# Altium footprint library AltiumLibrary.PcbLib: 85 footprints (part 5 of 6)
Each footprint in its own frame and in the unit in brackets; x right, y up, seen from the top. Pads: shape width x height; smd on the part's side, far side on the other; paste and mask are expansions set on the pad; w line width, h text height; cw(c..) or ccw(c..) is an arc to the next point about the centre after c.
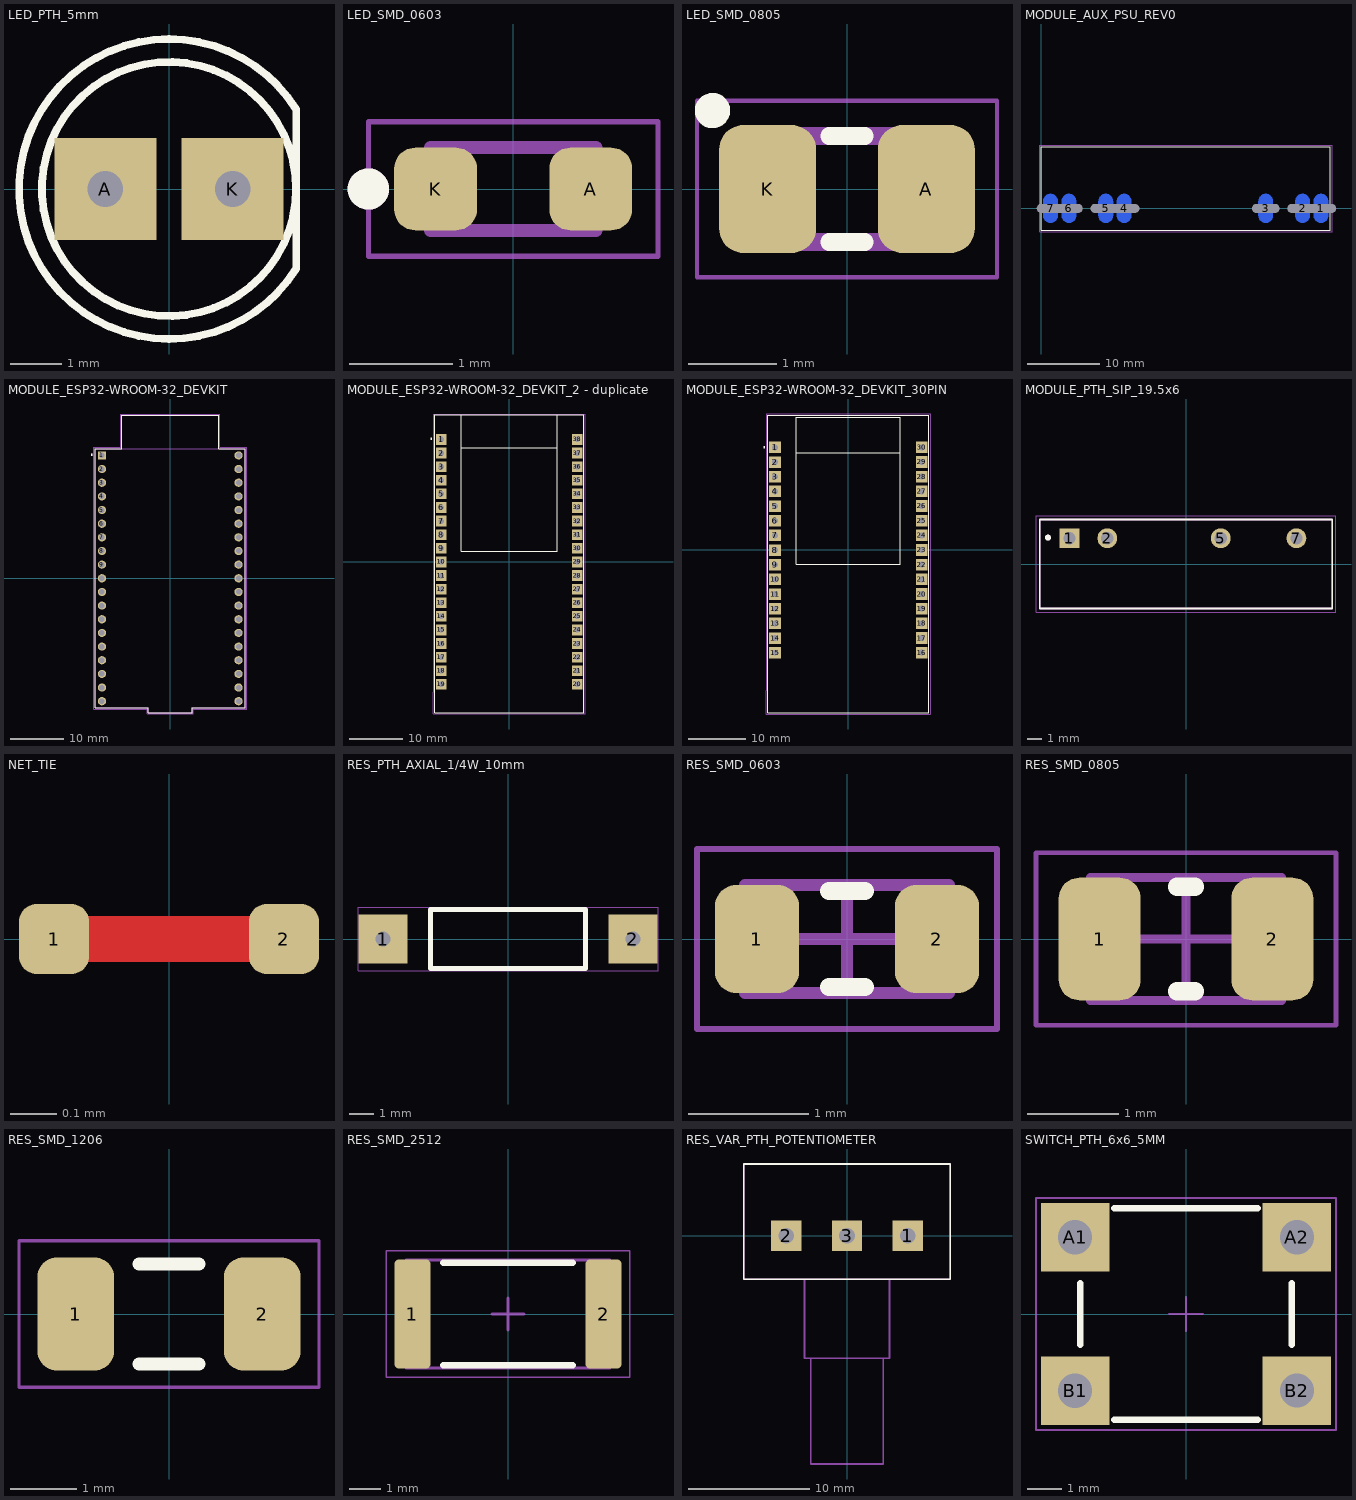
[diagram p4: the footprints below, top view; thin cyan lines are the x and y axes]

## LED_PTH_5mm [mm] "Generic PTH LED. 5mm diameter"
height 10
pads (2):
  rect 2x2 hole 0.7: A(-1.25,0) K(1.25,0)
Top Overlay:
  circle w0.152: c0,0 r2.5
  lines w0.152: 2.502,-1.563 cw(c0,0) 2.502,1.563 2.502,-0.546 2.502,-1.563
3D body "LED.step": height 8.61, standoff -3.49, extent -2.938,-2.945 2.5,2.945

## LED_SMD_0603 [mm]
pads (2):
  rrect50% 0.8x0.8 smd: A(0.75,0) K(-0.75,0)
Top Overlay:
  circle w0.2: c-1.4,0 r0.1
Top Assembly (Mech13):
  circle w0.2: c-1.4,0 r0.1
  lines w0.127: -0.8,-0.4 0.8,-0.4 0.8,0.4 -0.8,0.4 -0.8,-0.4
Top Courtyard:
  lines w0.05: -1.4,-0.65 1.4,-0.65 1.4,0.65 -1.4,0.65 -1.4,-0.65
3D body "step_temp.STEP": height 0.65, standoff 0, extent -0.8,-0.4 0.8,0.4

## LED_SMD_0805 [mm]
pads (2):
  rrect50% 1.1x1.45 smd: A(0.9,0) K(-0.9,0)
Top Overlay:
  circle w0.2: c-1.524,0.889 r0.1
  lines w0.2: -0.2,-0.6 0.2,-0.6 ; -0.2,0.6 0.2,0.6
Top Assembly (Mech13):
  region: 1,-0.6 0.5,-0.6 0.5,0.6 1,0.6
  region: -0.5,-0.6 -1,-0.6 -1,0.6 -0.5,0.6
  lines w0.2: -1,-0.6 -1,0.6 1,0.6 1,-0.6 -1,-0.6
Top Courtyard:
  lines w0.05: -1.7,-1 -1.7,1 1.7,1 1.7,-1 -1.7,-1
3D body "step_temp.STEP": height 0.7, standoff 0, extent -1,-0.625 1,0.625

## MODULE_AUX_PSU_REV0 [mm] "GEDRE Auxiliary Power Suppy - 3 Outputs"
height 17.15
pads (11):
  oval 2x4 smd far side: 1(38.576,0) 2(36.036,0) 3(30.956,0) 4(11.43,0) 5(8.89,0) 6(3.81,0) 7(1.27,0)
  round 0 hole 1.2 slot 6.28 at 0 deg unplated: 11(2.54,0)
  round 0 hole 1.2 slot 6.68 at 0 deg unplated: 11(10.16,0) 11(37.306,0)
  round 0 hole 1.2 slot 3.74 at 0 deg unplated: 11(30.956,0)
Top Overlay:
  lines w0.152: 0,-3 0,8.5 16.57,8.5 39.846,8.5 39.846,-3 0,-3
Top Courtyard:
  lines w0.152: -0.2,-3.2 -0.2,8.7 40.1,8.7 40.1,-3.2 6.9,-3.2 -0.2,-3.2
3D body "PCB.step": height 17.16, standoff -4.12, extent 0,-3.023 39.846,8.518

## MODULE_ESP32-WROOM-32_DEVKIT [mm]
pads (38):
  rect 1.53x1.53 / inner round 1.53 / far side rect 1.53x1.53 hole 1.02: 1(-12.7,22.85)
  round 1.53 hole 1.02: 2(-12.7,20.31) 3(-12.7,17.77) 4(-12.7,15.23) 5(-12.7,12.69) 6(-12.7,10.15) 7(-12.7,7.61) 8(-12.7,5.07) 9(-12.7,2.53) 10(-12.7,-0.01) 11(-12.7,-2.55) 12(-12.7,-5.09) 13(-12.7,-7.63) 14(-12.7,-10.17) 15(-12.7,-12.71) 16(-12.7,-15.25) 17(-12.7,-17.79) 18(-12.7,-20.33) 19(-12.7,-22.87) 20(12.7,-22.87) 21(12.7,-20.33) 22(12.7,-17.79) 23(12.7,-15.25) 24(12.7,-12.71) 25(12.7,-10.17) 26(12.7,-7.63) 27(12.7,-5.09) 28(12.7,-2.55) 29(12.7,-0.01) 30(12.7,2.53) 31(12.7,5.07) 32(12.7,7.61) 33(12.7,10.15) 34(12.7,12.69) 35(12.7,15.23) 36(12.7,17.77) 37(12.7,20.31) 38(12.7,22.85)
Top Overlay:
  circle w0.2: c-14.57,22.97 r0.1
  lines w0.127: -13.95,-24.1 -13.95,24.1 -9,24.1 -9,30.3 9,30.3 9,24.1 13.95,24.1 13.95,-24.1 4.06,-24.1 4.06,-25 -4.07,-25 -4.07,-24.1 -13.95,-24.1
Top Assembly (Mech13):
  circle w0.2: c-14.57,22.97 r0.1
  lines w0.127: -9,24.1 9,24.1 ; -9,24.1 -13.95,24.1 -13.95,-24.1 -4.07,-24.1 -4.07,-25 4.06,-25 4.06,-24.1 13.95,-24.1 13.95,24.1 9,24.1 ; -9,24.1 -9,30.3 9,30.3 9,24.1
Top Courtyard:
  lines w0.05: -14.2,-24.38 -14.2,24.38 -9.25,24.38 -9.25,30.55 9.25,30.55 9.25,24.38 14.2,24.38 14.2,-24.38 4.31,-24.38 4.31,-25.25 -4.32,-25.25 -4.32,-24.38 -14.2,-24.38
3D body "step_temp.STEP": height 6.69, standoff -6, extent -13.97,-24.8 13.97,30.3

## MODULE_ESP32-WROOM-32_DEVKIT_2 - duplicate [mm]
pads (38):
  rect 2x2 hole 1.02: 1(-12.7,22.85) 2(-12.7,20.31) 3(-12.7,17.77) 4(-12.7,15.23) 5(-12.7,12.69) 6(-12.7,10.15) 7(-12.7,7.61) 8(-12.7,5.07) 9(-12.7,2.53) 10(-12.7,-0.01) 11(-12.7,-2.55) 12(-12.7,-5.09) 13(-12.7,-7.63) 14(-12.7,-10.17) 15(-12.7,-12.71) 16(-12.7,-15.25) 17(-12.7,-17.79) 18(-12.7,-20.33) 19(-12.7,-22.87) 20(12.7,-22.87) 21(12.7,-20.33) 22(12.7,-17.79) 23(12.7,-15.25) 24(12.7,-12.71) 25(12.7,-10.17) 26(12.7,-7.63) 27(12.7,-5.09) 28(12.7,-2.55) 29(12.7,-0.01) 30(12.7,2.53) 31(12.7,5.07) 32(12.7,7.61) 33(12.7,10.15) 34(12.7,12.69) 35(12.7,15.23) 36(12.7,17.77) 37(12.7,20.31) 38(12.7,22.85)
Top Overlay:
  circle w0.2: c-14.57,22.97 r0.1
  lines w0.127: -9,21.31 9,21.31 ; -9,21.31 -9,27.5 ; -9,21.31 -9,2.755 -9,2 -6.5,2 9,2 9,2.755 9,21.31 ; -9,27.5 -13.95,27.5 -13.95,-28.2 -4.07,-28.2 4.06,-28.2 13.95,-28.2 13.95,27.5 9,27.5 ; -9,27.5 9,27.5 ; -9,27.5 9,27.5 ; 9,21.31 9,27.5
Top Courtyard:
  lines w0.05: 14.2,-24.38 14.2,24.38 ; -14.2,-28.4 -14.2,-24.38 -14.2,27.6 14.2,27.6 14.2,-28.4 -14.2,-28.4
3D body "ESP.step": height 6.7, standoff -5.99, extent -13.985,-28.175 13.985,27.475

## MODULE_ESP32-WROOM-32_DEVKIT_30PIN [mm]
pads (30):
  rect 2x2 hole 1.02: 1(-12.7,17.77) 2(-12.7,15.23) 3(-12.7,12.69) 4(-12.7,10.15) 5(-12.7,7.61) 6(-12.7,5.07) 7(-12.7,2.53) 8(-12.7,-0.01) 9(-12.7,-2.55) 10(-12.7,-5.09) 11(-12.7,-7.63) 12(-12.7,-10.17) 13(-12.7,-12.71) 14(-12.7,-15.25) 15(-12.7,-17.79) 16(12.7,-17.78) 17(12.7,-15.24) 18(12.7,-12.7) 19(12.7,-10.16) 20(12.7,-7.62) 21(12.7,-5.08) 22(12.7,-2.54) 23(12.7,0) 24(12.7,2.54) 25(12.7,5.08) 26(12.7,7.62) 27(12.7,10.16) 28(12.7,12.7) 29(12.7,15.24) 30(12.7,17.78)
Top Overlay:
  circle w0.2: c-14.57,17.77 r0.1
  lines w0.127: -9,16.81 -9,-1.745 -9,-2.5 -6.5,-2.5 9,-2.5 9,-1.745 9,16.81 ; -9,16.81 -9,23 ; -9,16.81 9,16.81 ; -9,23 9,23 ; -9,23 9,23 ; 9,16.81 9,23 ; -13.95,-28.2 -4.07,-28.2 4.06,-28.2 13.95,-28.2 13.95,23.3 -13.95,23.3 -13.95,-28.2
Top Courtyard:
  lines w0.05: 14.2,-24.38 14.2,23.55 ; 14.2,23.55 -14.2,23.55 -14.2,-24.38 -14.2,-28.4 14.2,-28.4 14.2,23.55
3D body "ESP.step": height 4.86, standoff 0, extent -14.5,-28.769 14.5,24.307

## MODULE_PTH_SIP_19.5x6 [mm] "SIP 19.5x6mm power supply module"
height 10.2
pads (4):
  rect 1.328x1.328 hole 0.82: 1(-7.825,1.73)
  round 1.328 hole 0.82: 2(-5.285,1.73) 5(2.335,1.73) 7(7.415,1.73)
Top Overlay:
  circle w0.2: c-9.271,1.778 r0.1
  lines w0.127: -9.825,-3 9.825,-3 9.825,3 -9.825,3 -9.825,-3
Top Assembly (Mech13):
  circle w0.2: c-9.271,1.778 r0.1
  lines w0.127: -9.825,-3 9.825,-3 9.825,3 -9.825,3 -9.825,-3
Top Courtyard:
  lines w0.05: -10.075,-3.25 10.075,-3.25 10.075,3.25 -10.075,3.25 -10.075,-3.25
3D body "RK-1515S-P--3DModel-STEP-1.STEP": height 10.21, standoff -4.09, extent -9.779,-3 9.871,3

## NET_TIE [mil] "Generic net tie"
pads (2):
  rrect50% 6x6 smd paste-99999 mask+4: 1(-9.84,0) 2(9.84,0)
Top Layer:
  rectangle: -7.87,-1.97 7.87,1.97

## RES_PTH_AXIAL_1/4W_10mm [mm] "1/4W PTH Resistor - 10.16mm lead spacing"
height 2.4
pads (2):
  rect 2x2 hole 0.6: 1(-5.08,0) 2(5.08,0)
Top Overlay:
  lines w0.2: -3.15,-1.2 -3.15,1.2 3.15,1.2 3.15,-1.2 -3.15,-1.2
Top Courtyard:
  lines w0.05: -6.1,-1.3 -6.1,1.3 6.1,1.3 6.1,-1.3 -6.1,-1.3
3D body "Res.step": height 2.39, standoff -3.5, extent -5.355,-1.2 5.355,1.2

## RES_SMD_0603 [mm] "0603 Chip Resistor, 2-Leads, Body 1,60x0,80mm, IPC Medium Density"
height 0.45
pads (2):
  rrect50% 0.7x0.9 smd: 1(-0.75,0) 2(0.75,0)
Top Overlay:
  lines w0.152: -0.15,-0.4 0.15,-0.4 ; -0.15,0.4 0.15,0.4
Top Assembly (Mech13):
  lines w0.1: -0.85,-0.45 -0.85,0.45 0.85,0.45 0.85,-0.45 -0.85,-0.45
Top Courtyard:
  lines w0.05: -1.25,-0.75 -1.25,0.75 1.25,0.75 1.25,-0.75 -1.25,-0.75
  lines w0.1: -0.45,0 0.45,0 ; 0,-0.45 0,0.45
3D body "Chip2PinSM127P600-8N.step": height 0.45, standoff 0, extent -0.85,-0.45 0.85,0.45

## RES_SMD_0805 [mm] "0805 Chip Resistor, 2-Leads, Body 2,00x1,25mm, IPC Medium Density"
height 0.5
pads (2):
  rrect50% 0.9x1.35 smd: 1(-0.95,0) 2(0.95,0)
Top Overlay:
  lines w0.2: -0.1,-0.575 0.1,-0.575 ; -0.1,0.575 0.1,0.575
Top Assembly (Mech13):
  lines w0.1: -1.05,-0.675 1.05,-0.675 1.05,0.675 -1.05,0.675 -1.05,-0.675
Top Courtyard:
  lines w0.05: -1.65,-0.95 1.65,-0.95 1.65,0.95 -1.65,0.95 -1.65,-0.95
  lines w0.1: -0.5,0 0.5,0 ; 0,-0.5 0,0.5
3D body "RES_SMD_0805.step": height 0.5, standoff 0, extent -1.05,-0.675 1.05,0.675

## RES_SMD_1206 [mm] "1206 Chip Resistor, 2-Leads, Body 3.1x1.55mm, IPC Medium Density"
height 0.55
pads (2):
  rrect50% 1.15x1.7 smd: 1(-1.4,0) 2(1.4,0)
Top Overlay:
  lines w0.2: -0.45,-0.75 0.45,-0.75 ; -0.45,0.75 0.45,0.75
Top Courtyard:
  lines w0.05: -2.25,-1.1 2.25,-1.1 2.25,1.1 -2.25,1.1 -2.25,-1.1
3D body "RES_1206.step": height 0.45, standoff 0, extent -1.625,-0.85 1.625,0.85

## RES_SMD_2512 [mm] "2512 Chip Resistor, 2-Leads, Body 6.3x3.3mm, IPC Medium Density"
height 0.63
pads (2):
  rrect25% 1.15x3.45 smd: 1(-3.025,0) 2(3.025,0)
Top Overlay:
  lines w0.2: -2.05,-1.625 2.05,-1.625 ; -2.05,1.625 2.05,1.625
Top Assembly (Mech13):
  lines w0.1: -3.225,-1.715 -3.225,1.715 3.225,1.715 3.225,-1.715 -3.225,-1.715
Top Courtyard:
  lines w0.05: -3.85,-2 -3.85,2 3.85,2 3.85,-2 -3.85,-2
  lines w0.1: -0.5,0 0.5,0 ; 0,-0.5 0,0.5
3D body "RES_SMD_2512.step": height 0.63, standoff 0, extent -3.225,-1.715 3.225,1.715

## RES_VAR_PTH_POTENTIOMETER [mm] "PTH potentiometer"
pads (3):
  rect 2.5x2.5 hole 1.3 paste-2539.97 mask+0.102: 1(5,0) 2(-5,0) 3(0,0)
Top Overlay:
  lines w0.127: -8.5,-3.6 -8.5,5.9 8.5,5.9 8.5,-3.6 -8.5,-3.6
Top Courtyard:
  lines w0.127: -3.5,-3.6 -8.5,-3.6 -8.5,5.9 8.5,5.9 8.5,-3.6 3.5,-3.6 ; -3.5,-3.6 3.5,-3.6 ; -3.5,-3.6 -3.5,-10.1 3.5,-10.1 3.5,-3.6 ; -3,-18.8 -3,-10.1 3,-10.1 3,-18.8 -3,-18.8
3D body "R16148-1A-2-B5K--3DModel-STEP-510211.STEP": height 21.1, standoff -3.98, extent -8.5,-18.8 8.5,5.4

## SWITCH_PTH_6x6_5MM [mm] "PTH Tact Switch, body 6x6 mm, 5mm height"
height 5
pads (4):
  rect 2x2 hole 1: A1(-3.25,2.25) A2(3.25,2.25) B1(-3.25,-2.25) B2(3.25,-2.25)
Top Overlay:
  lines w0.2: -3.1,-0.9 -3.1,0.9 ; -2.1,-3.1 2.1,-3.1 ; -2.1,3.1 2.1,3.1 ; 3.1,-0.9 3.1,0.9
Top Courtyard:
  lines w0.05: -0.5,0 0.5,0 ; 0,-0.5 0,0.5 ; -4.4,-3.4 4.4,-3.4 4.4,3.4 -4.4,3.4 -4.4,-3.4
3D body "TL1105F160Q--3DModel-STEP-56544.STEP": height 4.31, standoff -3.54, extent -3.944,-3 3.944,3